# Altium footprint library TGIS_Microcontrollers.PcbLib: 6 footprints
Each footprint in its own frame and in the unit in brackets; x right, y up, seen from the top. Pads: shape width x height; smd on the part's side, far side on the other; paste and mask are expansions set on the pad; w line width, h text height; cw(c..) or ccw(c..) is an arc to the next point about the centre after c.
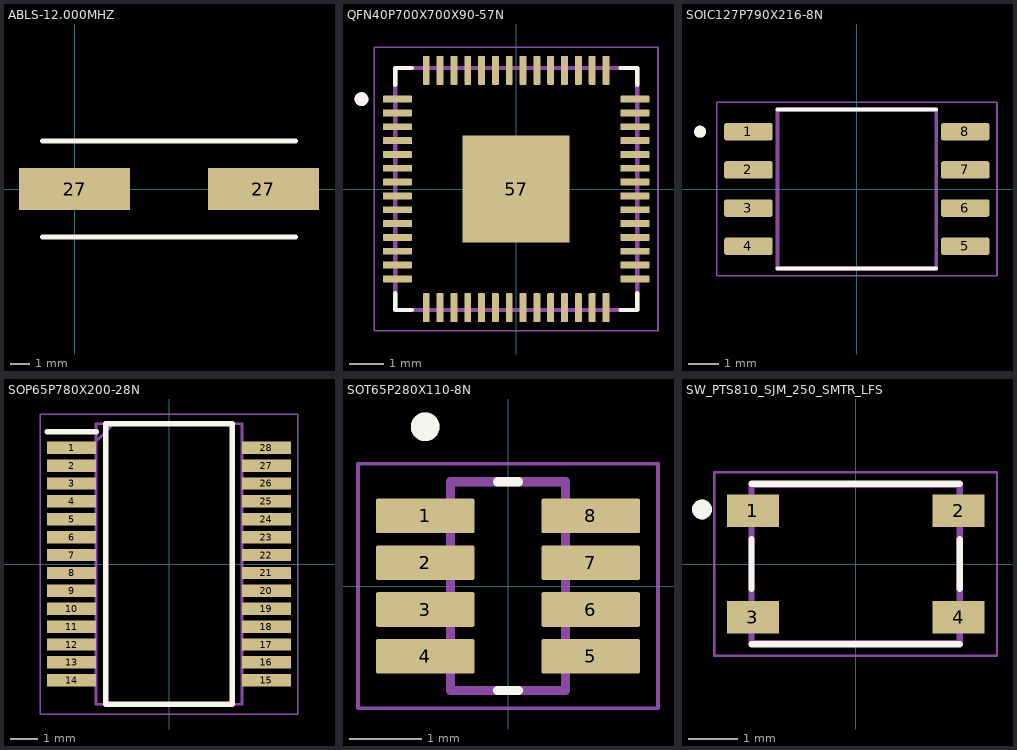
[diagram p0: the footprints below, top view; thin cyan lines are the x and y axes]

## ABLS-12.000MHZ [mil]
pads (2):
  rect 220x83 smd paste-22.44 mask+1.97: 27(0,0) 27(374,0)
Top Overlay:
  lines w10: -63,-95 187,-95 437,-95 ; -63,95 187,95 437,95
3D body "ABLS-12.000MHZ-B2-T--3DModel-STEP-400430.STEP": height 160.5, standoff -3.5, extent -60,-92.5 440,92.5

## QFN40P700X700X90-57N [mm]
height 0.9
pads (57):
  rrect25% 0.84x0.2 smd mask+0.05: 1(-3.435,2.6) 2(-3.435,2.2) 3(-3.435,1.8) 4(-3.435,1.4) 5(-3.435,1) 6(-3.435,0.6) 7(-3.435,0.2) 8(-3.435,-0.2) 9(-3.435,-0.6) 10(-3.435,-1) 11(-3.435,-1.4) 12(-3.435,-1.8) 13(-3.435,-2.2) 14(-3.435,-2.6) 29(3.435,-2.6) 30(3.435,-2.2) 31(3.435,-1.8) 32(3.435,-1.4) 33(3.435,-1) 34(3.435,-0.6) 35(3.435,-0.2) 36(3.435,0.2) 37(3.435,0.6) 38(3.435,1) 39(3.435,1.4) 40(3.435,1.8) 41(3.435,2.2) 42(3.435,2.6)
  rrect25% 0.2x0.84 smd mask+0.05: 15(-2.6,-3.435) 16(-2.2,-3.435) 17(-1.8,-3.435) 18(-1.4,-3.435) 19(-1,-3.435) 20(-0.6,-3.435) 21(-0.2,-3.435) 22(0.2,-3.435) 23(0.6,-3.435) 24(1,-3.435) 25(1.4,-3.435) 26(1.8,-3.435) 27(2.2,-3.435) 28(2.6,-3.435) 43(2.6,3.435) 44(2.2,3.435) 45(1.8,3.435) 46(1.4,3.435) 47(1,3.435) 48(0.6,3.435) 49(0.2,3.435) 50(-0.2,3.435) 51(-0.6,3.435) 52(-1,3.435) 53(-1.4,3.435) 54(-1.8,3.435) 55(-2.2,3.435) 56(-2.6,3.435)
  rect 3.1x3.1 smd paste-0.57 mask+0.05: 57(0,0)
Top Overlay:
  circle w0.2: c-4.475,2.6 r0.1
  lines w0.127: -3.5,-3.02 -3.5,-3.5 -3.02,-3.5 ; -3.5,3.02 -3.5,3.5 -3.02,3.5 ; 3.02,-3.5 3.5,-3.5 3.5,-3.02 ; 3.02,3.5 3.5,3.5 3.5,3.02
Mechanical 13:
  circle w0.2: c-4.475,2.6 r0.1
  lines w0.127: -3.5,-3.5 -3.5,3.5 3.5,3.5 3.5,-3.5 -3.5,-3.5
Mechanical 15:
  lines w0.05: -4.105,-4.105 -4.105,4.105 4.105,4.105 4.105,-4.105 -4.105,-4.105
3D body "RP2040--3DModel-STEP-269445.STEP": height -0.38, standoff -1.28, extent -3.5,-3.5 3.5,3.5

## SOIC127P790X216-8N [mm]
pads (8):
  rrect25% 1.61x0.58 smd: 1(-3.605,1.905) 2(-3.605,0.635) 3(-3.605,-0.635) 4(-3.605,-1.905) 5(3.605,-1.905) 6(3.605,-0.635) 7(3.605,0.635) 8(3.605,1.905)
Top Overlay:
  circle w0.2: c-5.215,1.905 r0.1
  lines w0.127: -2.64,-2.64 2.64,-2.64 ; -2.64,2.64 2.64,2.64
Mechanical 13:
  circle w0.2: c-5.215,1.905 r0.1
  lines w0.127: -2.64,-2.64 -2.64,2.64 2.64,2.64 2.64,-2.64 -2.64,-2.64
Mechanical 15:
  lines w0.05: -4.66,-2.89 -4.66,2.89 4.66,2.89 4.66,-2.89 -4.66,-2.89
3D body "W25Q128JVSIQ.STEP": height 2.11, standoff -0.05, extent -3.95,-2.64 3.95,2.64

## SOP65P780X200-28N [mm]
pads (28):
  rect 1.775x0.45 smd: 1(-3.538,4.225) 2(-3.538,3.575) 3(-3.538,2.925) 4(-3.538,2.275) 5(-3.538,1.625) 6(-3.538,0.975) 7(-3.538,0.325) 8(-3.538,-0.325) 9(-3.538,-0.975) 10(-3.538,-1.625) 11(-3.538,-2.275) 12(-3.538,-2.925) 13(-3.538,-3.575) 14(-3.538,-4.225) 15(3.538,-4.225) 16(3.538,-3.575) 17(3.538,-2.925) 18(3.538,-2.275) 19(3.538,-1.625) 20(3.538,-0.975) 21(3.538,-0.325) 22(3.538,0.325) 23(3.538,0.975) 24(3.538,1.625) 25(3.538,2.275) 26(3.538,2.925) 27(3.538,3.575) 28(3.538,4.225)
Top Overlay:
  lines w0.2: -4.425,4.8 -2.65,4.8 ; -2.3,-5.1 -2.3,5.1 2.3,5.1 2.3,-5.1 -2.3,-5.1
Mechanical 15:
  lines w0.1: -2.65,4.45 -2,5.1 ; -2.65,-5.1 -2.65,5.1 2.65,5.1 2.65,-5.1 -2.65,-5.1
Mechanical 20:
  lines w0.05: -4.675,-5.45 -4.675,5.45 4.675,5.45 4.675,-5.45 -4.675,-5.45
3D body "CY7C65213-28PVXIT.stp": height 2, standoff 0, extent -3.9,-5.1 3.9,5.1

## SOT65P280X110-8N [mm]
pads (8):
  rrect10% 1.37x0.48 smd: 1(-1.15,0.975) 2(-1.15,0.325) 3(-1.15,-0.325) 4(-1.15,-0.975) 5(1.15,-0.975) 6(1.15,-0.325) 7(1.15,0.325) 8(1.15,0.975)
Top Overlay:
  circle w0.2: c-1.15,2.215 r0.1
  lines w0.127: -0.145,-1.45 0.145,-1.45 ; -0.145,1.45 0.145,1.45
Mechanical 13:
  circle w0.2: c-1.15,2.215 r0.1
  lines w0.127: -0.8,-1.45 0.8,-1.45 0.8,1.45 -0.8,1.45 -0.8,-1.45
Mechanical 15:
  lines w0.05: -2.085,-1.7 2.085,-1.7 2.085,1.7 -2.085,1.7 -2.085,-1.7
3D body "step_temp.STEP": height 1.1, standoff 0, extent -1.4,-1.45 1.4,1.45

## SW_PTS810_SJM_250_SMTR_LFS [mm]
pads (4):
  rect 1.05x0.65 smd: 1(-2.075,1.075) 2(2.075,1.075) 3(-2.075,-1.075) 4(2.075,-1.075)
Top Overlay:
  circle w0.2: c-3.1,1.1 r0.1
  lines w0.127: -2.1,-1.62 2.1,-1.62 ; -2.1,-0.5 -2.1,0.5 ; -2.1,1.62 2.1,1.62 ; 2.1,-0.5 2.1,0.5
Mechanical 13:
  circle w0.2: c-3.1,1.1 r0.1
  lines w0.127: -2.1,-1.6 2.1,-1.6 2.1,1.6 -2.1,1.6 -2.1,-1.6
Mechanical 15:
  lines w0.05: -2.85,-1.85 2.85,-1.85 2.85,1.85 -2.85,1.85 -2.85,-1.85
3D body "PTS810 SJM 250 SMTR LFS--3DModel-STEP-56544.STEP": height 2.71, standoff 0.01, extent -2.3,-1.6 2.3,1.6